# Altium schematic symbol library RC0805JR-072K2L.SchLib: 1 symbol
Pins are listed as number, name and electrical type; pins without a type are passive.

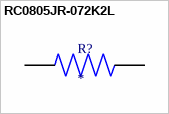
[diagram p0: symbol RC0805JR-072K2L]

## RC0805JR-072K2L
designator R?
2.2 kOhms ±5% 0.125W, 1/8W Chip Resistor 0805 (2012 Metric) Moisture Resistant Thick Film; MF: Yageo; MP: RC0805JR-072K2L; SnapEDA_Link: https://www.snapeda.com/parts/RC0805JR-072K2L/Yageo/view-part/?ref=snap; Package: 2012 Yageo; Value: *; Check_prices: https://www.snapeda.com/parts/RC0805JR-072K2L/Yageo/view-part/?ref=eda
pins: 1, 2